# EAGLE library part TS52002 (library ts52002)
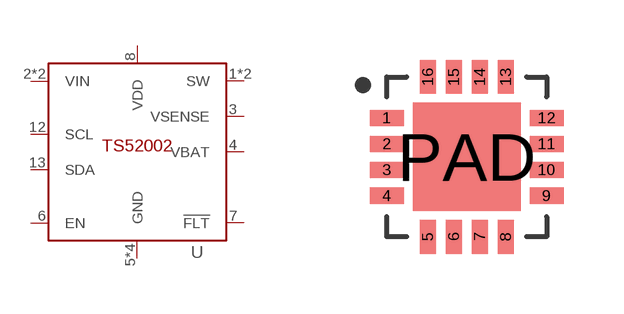
[diagram p0: symbol with the pads of QFN-32-WITH-CENTER-PAD; footprint QFN-32-WITH-CENTER-PAD]

Designator prefix U

## TS52002  [QFN-32-WITH-CENTER-PAD]
1  SW
2  VIN  pwr
3  VSENSE
4  VBAT  pwr
5  GND  pwr
6  EN  in
7  !FLT  oc
8  VDD  pwr
11  VIN  pwr
12  SCL  in
13  SDA
14  SW
15  GND  pwr
16  GND  pwr
PAD  GND  pwr

## Footprint QFN-32-WITH-CENTER-PAD (pad centres in mm)
smd 0.85 x 0.4: 1 -2,0.975; 2 -2,0.325; 3 -2,-0.325; 4 -2,-0.975; 9 2,-0.975; 10 2,-0.325; 11 2,0.325; 12 2,0.975
smd 0.4 x 0.85: 5 -0.975,-2; 6 -0.325,-2; 7 0.325,-2; 8 0.975,-2; 13 0.975,2; 14 0.325,2; 15 -0.325,2; 16 -0.975,2
smd 2.7 x 2.7: PAD 0,0